# Altium schematic symbol library MCU.SchLib: 12 symbols
Pins are listed as number, name and electrical type; pins without a type are passive.

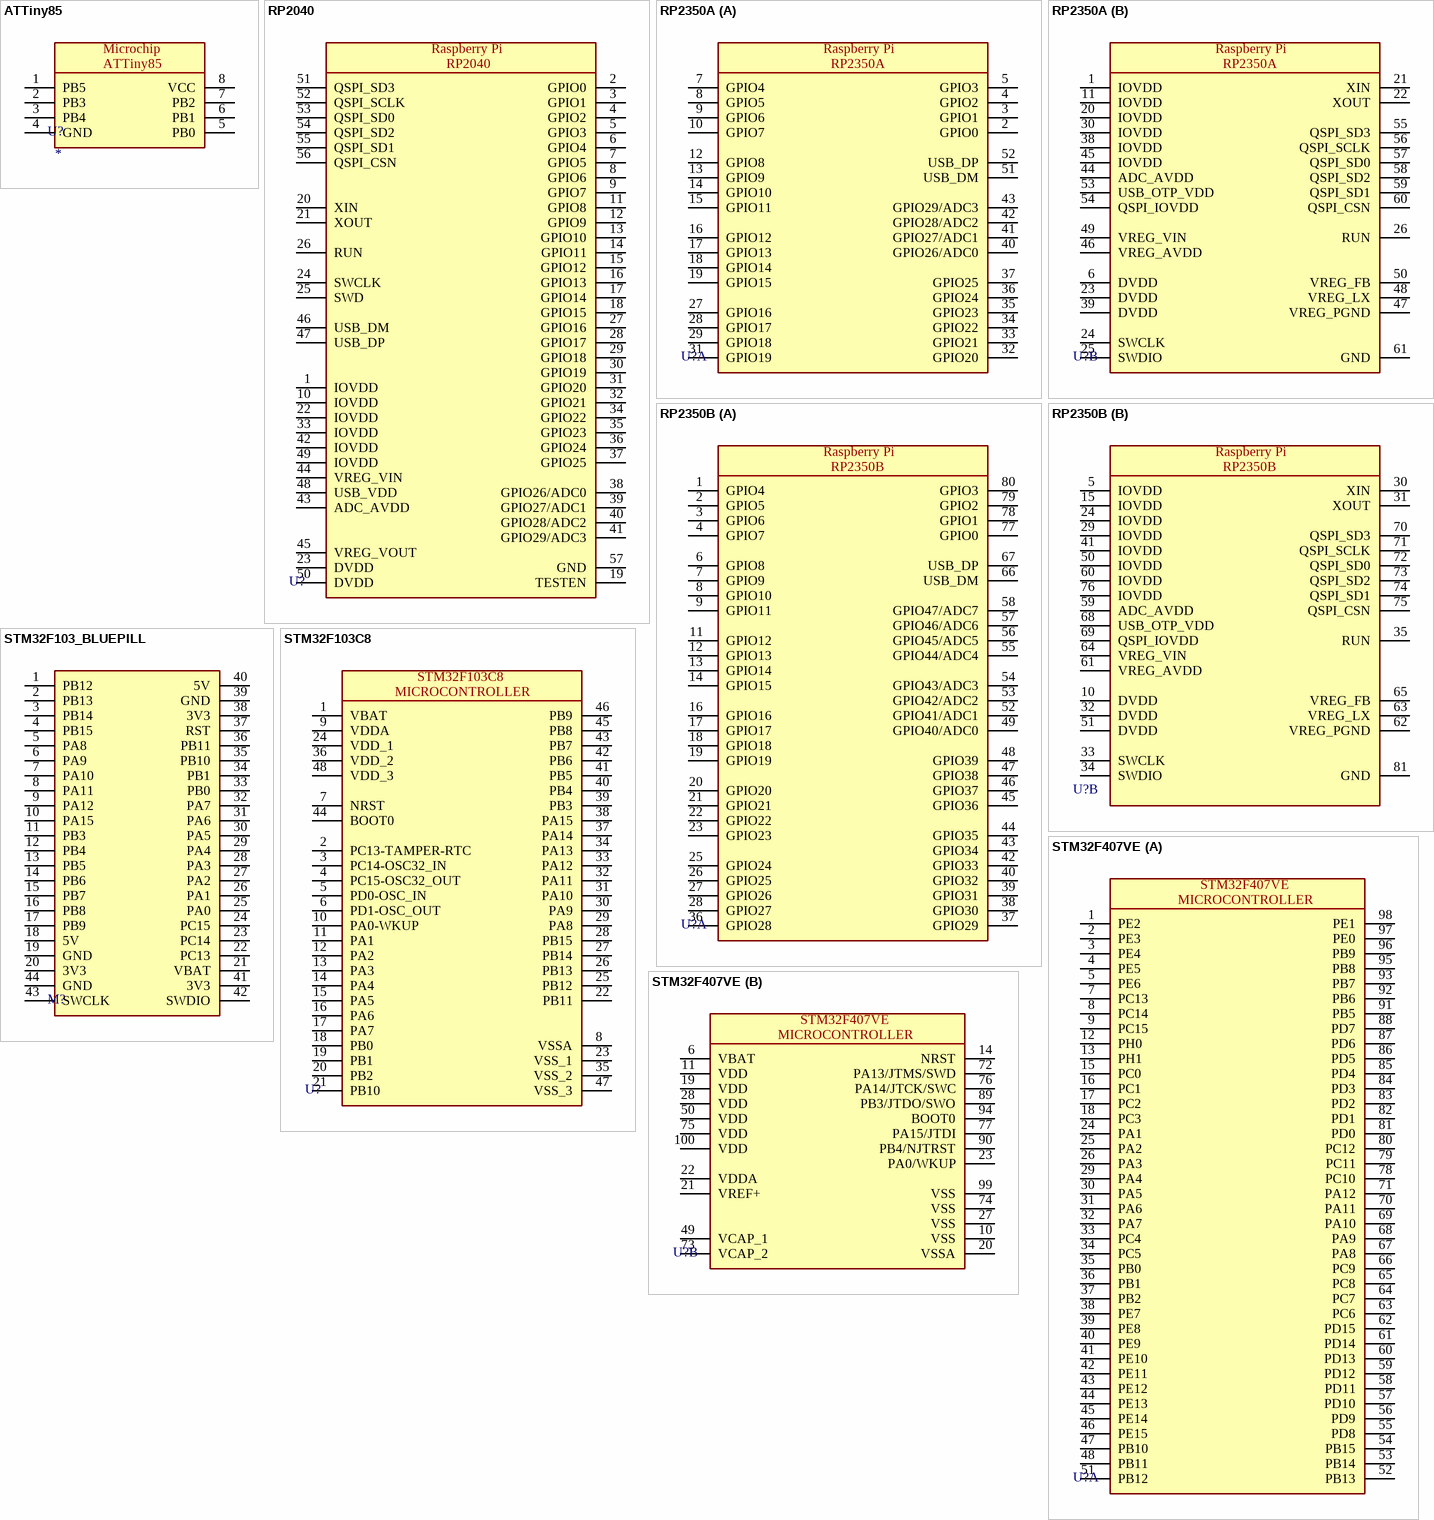
[diagram p0: symbols ATTiny85 to STM32F407VE]

## ATTiny85
designator U?
MCU 8-bit AVR RISC 8KB Flash 3.3V/5V 8-Pin PDIP W Tube / IC MCU 8BIT 8KB FLASH 8DIP; Manufacturer 1: Microchip; Supplier 1: *; Supplier Part Number 1: *; Value: *; Package: PDIP 8; Manufacturer Part Number 1: *
footprint DIP8
pins: 1 PB5, 2 PB3, 3 PB4, 4 GND, 5 PB0, 6 PB1, 7 PB2, 8 VCC

## RP2040
designator U?
ARM® Cortex®-M0+ - Microcontroller IC 32-Bit Dual-Core 133MHz External Program Memory 56-QFN (7x7); Manufacturer Part Number 1: RP2040; Manufacturer 1: Raspberry Pi; Package: QFN56; Value: *; Supplier Part Number 1: *; Supplier 1: *
footprint QFN40P700X700X90-57N
pins: 1 IOVDD, 2 GPIO0, 3 GPIO1, 4 GPIO2, 5 GPIO3, 6 GPIO4, 7 GPIO5, 8 GPIO6, 9 GPIO7, 10 IOVDD, 11 GPIO8, 12 GPIO9, 13 GPIO10, 14 GPIO11, 15 GPIO12, 16 GPIO13, 17 GPIO14, 18 GPIO15, 19 TESTEN, 20 XIN, 21 XOUT, 22 IOVDD, 23 DVDD, 24 SWCLK, 25 SWD, 26 RUN, 27 GPIO16, 28 GPIO17, 29 GPIO18, 30 GPIO19, 31 GPIO20, 32 GPIO21, 33 IOVDD, 34 GPIO22, 35 GPIO23, 36 GPIO24, 37 GPIO25, 38 GPIO26/ADC0, 39 GPIO27/ADC1, 40 GPIO28/ADC2, 41 GPIO29/ADC3, 42 IOVDD, 43 ADC_AVDD, 44 VREG_VIN, 45 VREG_VOUT, 46 USB_DM, 47 USB_DP, 48 USB_VDD, 49 IOVDD, 50 DVDD, 51 QSPI_SD3, 52 QSPI_SCLK, 53 QSPI_SD0, 54 QSPI_SD2, 55 QSPI_SD1, 56 QSPI_CSN, 57 GND

## RP2350A
designator U?
Dual ARM Cortex M33 - Microcontroller IC 32-Bit 60-QFN (7x7); Manufacturer Part Number 1: RP2350A; Manufacturer 1: Raspberry Pi; Package: QFN-60-EP(7x7); Supplier Part Number 1: *; Supplier 1: *
footprint QFN40P700X700X90_HS-61M (QFN, 60-Leads, Body 7.00x7.00mm, Pitch 0.40mm, Thermal Pad 3.40x3.40mm, IPC Low Density)
part A pins: 2 GPIO0, 3 GPIO1, 4 GPIO2, 5 GPIO3, 7 GPIO4, 8 GPIO5, 9 GPIO6, 10 GPIO7, 12 GPIO8, 13 GPIO9, 14 GPIO10, 15 GPIO11, 16 GPIO12, 17 GPIO13, 18 GPIO14, 19 GPIO15, 27 GPIO16, 28 GPIO17, 29 GPIO18, 31 GPIO19, 32 GPIO20, 33 GPIO21, 34 GPIO22, 35 GPIO23, 36 GPIO24, 37 GPIO25, 40 GPIO26/ADC0, 41 GPIO27/ADC1, 42 GPIO28/ADC2, 43 GPIO29/ADC3, 51 USB_DM, 52 USB_DP
part B pins: 1 IOVDD, 6 DVDD, 11 IOVDD, 20 IOVDD, 21 XIN, 22 XOUT, 23 DVDD, 24 SWCLK, 25 SWDIO, 26 RUN, 30 IOVDD, 38 IOVDD, 39 DVDD, 44 ADC_AVDD, 45 IOVDD, 46 VREG_AVDD, 47 VREG_PGND, 48 VREG_LX, 49 VREG_VIN, 50 VREG_FB, 53 USB_OTP_VDD, 54 QSPI_IOVDD, 55 QSPI_SD3, 56 QSPI_SCLK, 57 QSPI_SD0, 58 QSPI_SD2, 59 QSPI_SD1, 60 QSPI_CSN, 61 GND

## RP2350B
designator U?
Dual ARM Cortex M33 - Microcontroller IC 32-Bit 80-QFN (10x10); Manufacturer Part Number 1: RP2040; Manufacturer 1: Raspberry Pi; Package: QFN56; Value: *; Supplier Part Number 1: *; Supplier 1: *
footprint QFN40P1000X1000X90_HS-81M (QFN, 80-Leads, Body 10.00x10.00mm, Pitch 0.40mm, Thermal Pad 7.82x7.82mm, IPC Low Density)
part A pins: 1 GPIO4, 2 GPIO5, 3 GPIO6, 4 GPIO7, 6 GPIO8, 7 GPIO9, 8 GPIO10, 9 GPIO11, 11 GPIO12, 12 GPIO13, 13 GPIO14, 14 GPIO15, 16 GPIO16, 17 GPIO17, 18 GPIO18, 19 GPIO19, 20 GPIO20, 21 GPIO21, 22 GPIO22, 23 GPIO23, 25 GPIO24, 26 GPIO25, 27 GPIO26, 28 GPIO27, 36 GPIO28, 37 GPIO29, 38 GPIO30, 39 GPIO31, 40 GPIO32, 42 GPIO33, 43 GPIO34, 44 GPIO35, 45 GPIO36, 46 GPIO37, 47 GPIO38, 48 GPIO39, 49 GPIO40/ADC0, 52 GPIO41/ADC1, 53 GPIO42/ADC2, 54 GPIO43/ADC3, 55 GPIO44/ADC4, 56 GPIO45/ADC5, 57 GPIO46/ADC6, 58 GPIO47/ADC7, 66 USB_DM, 67 USB_DP, 77 GPIO0, 78 GPIO1, 79 GPIO2, 80 GPIO3
part B pins: 5 IOVDD, 10 DVDD, 15 IOVDD, 24 IOVDD, 29 IOVDD, 30 XIN, 31 XOUT, 32 DVDD, 33 SWCLK, 34 SWDIO, 35 RUN, 41 IOVDD, 50 IOVDD, 51 DVDD, 59 ADC_AVDD, 60 IOVDD, 61 VREG_AVDD, 62 VREG_PGND, 63 VREG_LX, 64 VREG_VIN, 65 VREG_FB, 68 USB_OTP_VDD, 69 QSPI_IOVDD, 70 QSPI_SD3, 71 QSPI_SCLK, 72 QSPI_SD0, 73 QSPI_SD2, 74 QSPI_SD1, 75 QSPI_CSN, 76 IOVDD, 81 GND

## STM32F103_BLUEPILL
designator M?
Manufacturer 1: *; Manufacturer Part Number 1: *; Package: *; Supplier 1: *; Supplier Part Number 1: *
footprint STM32F103_BLUEPILL
pins: 1 PB12, 2 PB13, 3 PB14, 4 PB15, 5 PA8, 6 PA9, 7 PA10, 8 PA11, 9 PA12, 10 PA15, 11 PB3, 12 PB4, 13 PB5, 14 PB6, 15 PB7, 16 PB8, 17 PB9, 18 5V, 19 GND, 20 3V3, 21 VBAT, 22 PC13, 23 PC14, 24 PC15, 25 PA0, 26 PA1, 27 PA2, 28 PA3, 29 PA4, 30 PA5, 31 PA6, 32 PA7, 33 PB0, 34 PB1, 35 PB10, 36 PB11, 37 RST, 38 3V3, 39 GND, 40 5V, 41 3V3, 42 SWDIO, 43 SWCLK, 44 GND

## STM32F103C8
designator U?
Manufacturer 1: *; Manufacturer Part Number 1: *; Supplier 1: *; Supplier Part Number 1: *; Package: *
footprint STM32F103C8
pins: 1 VBAT, 2 PC13-TAMPER-RTC, 3 PC14-OSC32_IN, 4 PC15-OSC32_OUT, 5 PD0-OSC_IN, 6 PD1-OSC_OUT, 7 NRST, 8 VSSA, 9 VDDA, 10 PA0-WKUP, 11 PA1, 12 PA2, 13 PA3, 14 PA4, 15 PA5, 16 PA6, 17 PA7, 18 PB0, 19 PB1, 20 PB2, 21 PB10, 22 PB11, 23 VSS_1, 24 VDD_1, 25 PB12, 26 PB13, 27 PB14, 28 PB15, 29 PA8, 30 PA9, 31 PA10, 32 PA11, 33 PA12, 34 PA13, 35 VSS_2, 36 VDD_2, 37 PA14, 38 PA15, 39 PB3, 40 PB4, 41 PB5, 42 PB6, 43 PB7, 44 BOOT0, 45 PB8, 46 PB9, 47 VSS_3, 48 VDD_3
text: MICROCONTROLLER

## STM32F407VE
designator U?
High-performance foundation line, Arm Cortex-M4 core with DSP and FPU, 512 Kbytes of Flash memory, 168 MHz CPU, ART Accelerator, Ethernet, FSMC; Manufacturer 1: *; Manufacturer Part Number 1: *; Supplier 1: *; Supplier Part Number 1: *; Value: *; Package: *
footprint QFP50P1600X1600X160-100N
part A pins: 1 PE2, 2 PE3, 3 PE4, 4 PE5, 5 PE6, 7 PC13, 8 PC14, 9 PC15, 12 PH0, 13 PH1, 15 PC0, 16 PC1, 17 PC2, 18 PC3, 24 PA1, 25 PA2, 26 PA3, 29 PA4, 30 PA5, 31 PA6, 32 PA7, 33 PC4, 34 PC5, 35 PB0, 36 PB1, 37 PB2, 38 PE7, 39 PE8, 40 PE9, 41 PE10, 42 PE11, 43 PE12, 44 PE13, 45 PE14, 46 PE15, 47 PB10, 48 PB11, 51 PB12, 52 PB13, 53 PB14, 54 PB15, 55 PD8, 56 PD9, 57 PD10, 58 PD11, 59 PD12, 60 PD13, 61 PD14, 62 PD15, 63 PC6, 64 PC7, 65 PC8, 66 PC9, 67 PA8, 68 PA9, 69 PA10, 70 PA11, 71 PA12, 78 PC10, 79 PC11, 80 PC12, 81 PD0, 82 PD1, 83 PD2, 84 PD3, 85 PD4, 86 PD5, 87 PD6, 88 PD7, 91 PB5, 92 PB6, 93 PB7, 95 PB8, 96 PB9, 97 PE0, 98 PE1
part B pins: 6 VBAT, 10 VSS, 11 VDD, 14 NRST, 19 VDD, 20 VSSA, 21 VREF+, 22 VDDA, 23 PA0/WKUP, 27 VSS, 28 VDD, 49 VCAP_1, 50 VDD, 72 PA13/JTMS/SWD, 73 VCAP_2, 74 VSS, 75 VDD, 76 PA14/JTCK/SWC, 77 PA15/JTDI, 89 PB3/JTDO/SWO, 90 PB4/NJTRST, 94 BOOT0, 99 VSS, 100 VDD
part A text: MICROCONTROLLER
part B text: MICROCONTROLLER

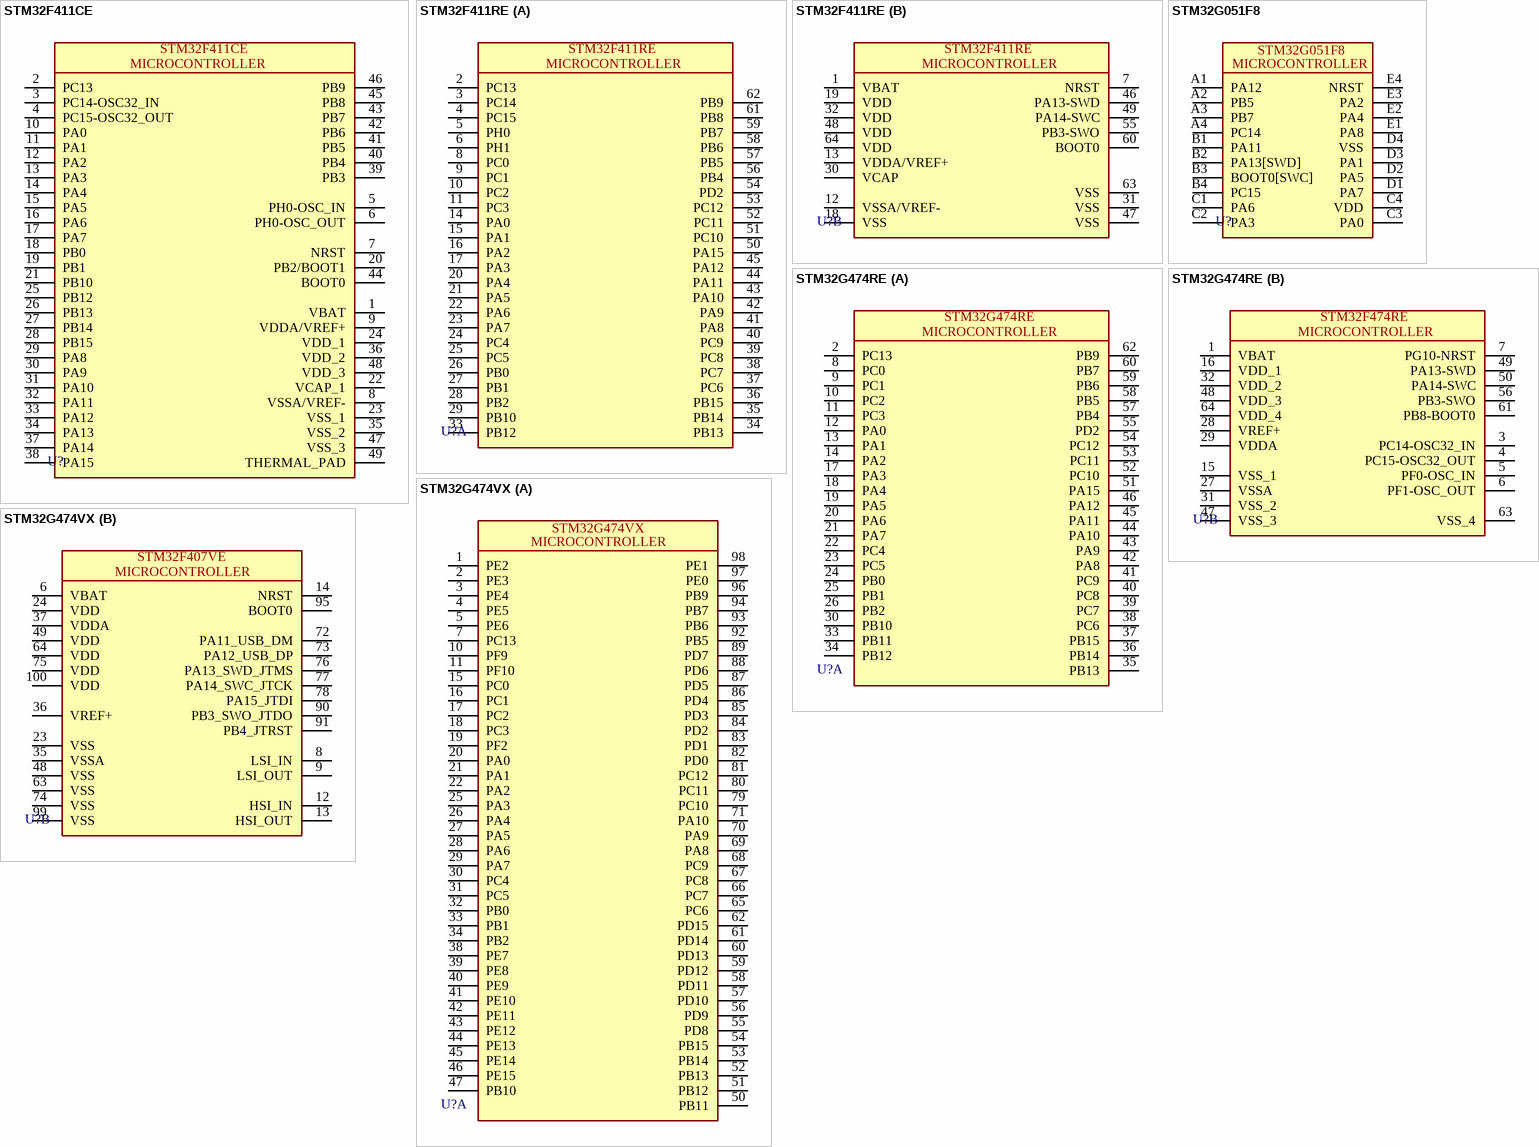
[diagram p1: symbols STM32F411CE to STM32G474VX]

## STM32F411CE
designator U?
High-performance access line, Arm Cortex-M4 core with DSP and FPU, 512 Kbytes of Flash memory, 100 MHz CPU, ART Accelerator; Manufacturer 1: *; Manufacturer Part Number 1: *; Supplier 1: *; Supplier Part Number 1: *; Value: *; Package: *
footprint STM32F411CE (-40?~+85? 1.7V~3.6V 100MHz 128KB 12bit 32 Bit 36 512KB ARM Cortex-M4 Built-in FLASH UFQFPN-48(7x7) Microcontrollers (MCU/MPU/SOC) ROHS)
pins: 1 VBAT, 2 PC13, 3 PC14-OSC32_IN, 4 PC15-OSC32_OUT, 5 PH0-OSC_IN, 6 PH0-OSC_OUT, 7 NRST, 8 VSSA/VREF-, 9 VDDA/VREF+, 10 PA0, 11 PA1, 12 PA2, 13 PA3, 14 PA4, 15 PA5, 16 PA6, 17 PA7, 18 PB0, 19 PB1, 20 PB2/BOOT1, 21 PB10, 22 VCAP_1, 23 VSS_1, 24 VDD_1, 25 PB12, 26 PB13, 27 PB14, 28 PB15, 29 PA8, 30 PA9, 31 PA10, 32 PA11, 33 PA12, 34 PA13, 35 VSS_2, 36 VDD_2, 37 PA14, 38 PA15, 39 PB3, 40 PB4, 41 PB5, 42 PB6, 43 PB7, 44 BOOT0, 45 PB8, 46 PB9, 47 VSS_3, 48 VDD_3, 49 THERMAL_PAD
text: MICROCONTROLLER

## STM32F411RE
designator U?
High-performance access line, Arm Cortex-M4 core with DSP and FPU, 512 Kbytes of Flash memory, 100 MHz CPU, ART Accelerator; Manufacturer 1: *; Manufacturer Part Number 1: *; Supplier 1: *; Supplier Part Number 1: *; Value: *; Package: *
footprint TSQFP50P1200X1200X160-64L (TSQFP, 64-Leads, Body 10.00x10.00mm, Pitch 0.50mm, IPC High Density)
part A pins: 2 PC13, 3 PC14, 4 PC15, 5 PH0, 6 PH1, 8 PC0, 9 PC1, 10 PC2, 11 PC3, 14 PA0, 15 PA1, 16 PA2, 17 PA3, 20 PA4, 21 PA5, 22 PA6, 23 PA7, 24 PC4, 25 PC5, 26 PB0, 27 PB1, 28 PB2, 29 PB10, 33 PB12, 34 PB13, 35 PB14, 36 PB15, 37 PC6, 38 PC7, 39 PC8, 40 PC9, 41 PA8, 42 PA9, 43 PA10, 44 PA11, 45 PA12, 50 PA15, 51 PC10, 52 PC11, 53 PC12, 54 PD2, 56 PB4, 57 PB5, 58 PB6, 59 PB7, 61 PB8, 62 PB9
part B pins: 1 VBAT, 7 NRST, 12 VSSA/VREF-, 13 VDDA/VREF+, 18 VSS, 19 VDD, 30 VCAP, 31 VSS, 32 VDD, 46 PA13-SWD, 47 VSS, 48 VDD, 49 PA14-SWC, 55 PB3-SWO, 60 BOOT0, 63 VSS, 64 VDD
part A text: MICROCONTROLLER
part B text: MICROCONTROLLER

## STM32G051F8
designator U?
Mainstream Arm Cortex-M0+ 32-bit MCU, up to 64 KB Flash, 18 KB RAM, 2x USART, timers, ADC, DAC, comm. I/Fs, 1.7-3.6V; Manufacturer 1: STMicroelectronics; Manufacturer Part Number 1: STM32G051F8Y6TR; Supplier 1: *; Supplier Part Number 1: *; Package: WLCSP-20
footprint WLCSP20 (WLCSP20 is a 20-ball, 1.94 x 2.40 mm, 0.4 mm pitch, wafer-level chip-scale package.)
pins: A1 PA12, A2 PB5, A3 PB7, A4 PC14, B1 PA11, B2 PA13[SWD], B3 BOOT0[SWC], B4 PC15, C1 PA6, C2 PA3, C3 PA0, C4 VDD, D1 PA7, D2 PA5, D3 PA1, D4 VSS, E1 PA8, E2 PA4, E3 PA2, E4 NRST
text: MICROCONTROLLER

## STM32G474RE
designator U?
Mainstream Arm Cortex-M4 MCU 170 MHz with 512 Kbytes of Flash memory, Math Accelerator, HR Timer, High Analog level integration; Manufacturer 1: STMicroelectronics; Manufacturer Part Number 1: STM32G474RET6; Value: *; Package: LQFP-64(10x10)
footprint TSQFP50P1200X1200X160-64L (TSQFP, 64-Leads, Body 10.00x10.00mm, Pitch 0.50mm, IPC High Density)
part A pins: 2 PC13, 8 PC0, 9 PC1, 10 PC2, 11 PC3, 12 PA0, 13 PA1, 14 PA2, 17 PA3, 18 PA4, 19 PA5, 20 PA6, 21 PA7, 22 PC4, 23 PC5, 24 PB0, 25 PB1, 26 PB2, 30 PB10, 33 PB11, 34 PB12, 35 PB13, 36 PB14, 37 PB15, 38 PC6, 39 PC7, 40 PC8, 41 PC9, 42 PA8, 43 PA9, 44 PA10, 45 PA11, 46 PA12, 51 PA15, 52 PC10, 53 PC11, 54 PC12, 55 PD2, 57 PB4, 58 PB5, 59 PB6, 60 PB7, 62 PB9
part B pins: 1 VBAT, 3 PC14-OSC32_IN, 4 PC15-OSC32_OUT, 5 PF0-OSC_IN, 6 PF1-OSC_OUT, 7 PG10-NRST, 15 VSS_1, 16 VDD_1, 27 VSSA, 28 VREF+, 29 VDDA, 31 VSS_2, 32 VDD_2, 47 VSS_3, 48 VDD_3, 49 PA13-SWD, 50 PA14-SWC, 56 PB3-SWO, 61 PB8-BOOT0, 63 VSS_4, 64 VDD_4
part A text: MICROCONTROLLER
part B text: STM32F474RE; MICROCONTROLLER

## STM32G474VX
designator U?
1.71V~3.6V 12bit 12bit 170MHz 512KB 86 ARM Cortex-M Series FLASH LQFP-100(14x14) Microcontrollers (MCU/MPU/SOC) ROHS; Manufacturer 1: *; Manufacturer Part Number 1: *; Supplier 1: *; Supplier Part Number 1: *; Package: *
footprint QFP50P1600X1600X160-100N
part A pins: 1 PE2, 2 PE3, 3 PE4, 4 PE5, 5 PE6, 7 PC13, 10 PF9, 11 PF10, 15 PC0, 16 PC1, 17 PC2, 18 PC3, 19 PF2, 20 PA0, 21 PA1, 22 PA2, 25 PA3, 26 PA4, 27 PA5, 28 PA6, 29 PA7, 30 PC4, 31 PC5, 32 PB0, 33 PB1, 34 PB2, 38 PE7, 39 PE8, 40 PE9, 41 PE10, 42 PE11, 43 PE12, 44 PE13, 45 PE14, 46 PE15, 47 PB10, 50 PB11, 51 PB12, 52 PB13, 53 PB14, 54 PB15, 55 PD8, 56 PD9, 57 PD10, 58 PD11, 59 PD12, 60 PD13, 61 PD14, 62 PD15, 65 PC6, 66 PC7, 67 PC8, 68 PC9, 69 PA8, 70 PA9, 71 PA10, 79 PC10, 80 PC11, 81 PC12, 82 PD0, 83 PD1, 84 PD2, 85 PD3, 86 PD4, 87 PD5, 88 PD6, 89 PD7, 92 PB5, 93 PB6, 94 PB7, 96 PB9, 97 PE0, 98 PE1
part B pins: 6 VBAT, 8 LSI_IN, 9 LSI_OUT, 12 HSI_IN, 13 HSI_OUT, 14 NRST, 23 VSS, 24 VDD, 35 VSSA, 36 VREF+, 37 VDDA, 48 VSS, 49 VDD, 63 VSS, 64 VDD, 72 PA11_USB_DM, 73 PA12_USB_DP, 74 VSS, 75 VDD, 76 PA13_SWD_JTMS, 77 PA14_SWC_JTCK, 78 PA15_JTDI, 90 PB3_SWO_JTDO, 91 PB4_JTRST, 95 BOOT0, 99 VSS, 100 VDD
part A text: MICROCONTROLLER
part B text: STM32F407VE; MICROCONTROLLER